# EAGLE library part 418311170804 (library Wurth_Elektronik_Electromechanic_Switchs_rev15b)
WS-PT 2.54 mm piano type compact SMD Dip Switch with flat actuator, 4 Pole
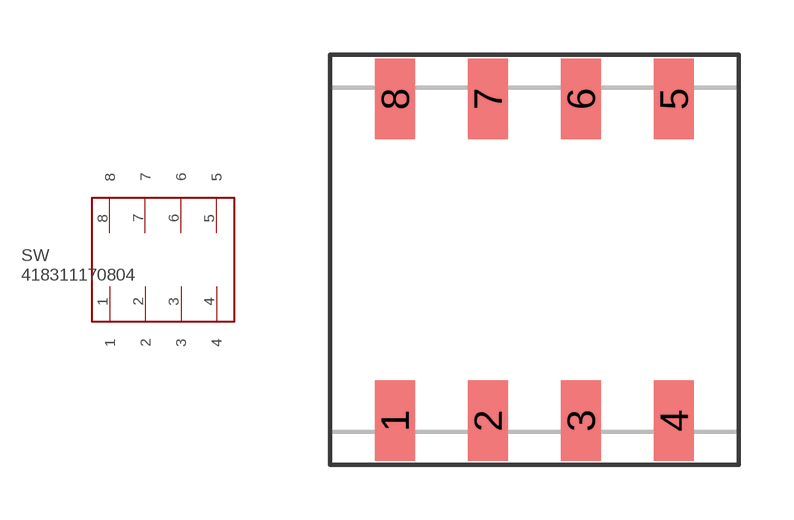
[diagram p126: symbol with the pads of 418311170804; footprint 418311170804]

Designator prefix SW

## 418311170804  [418311170804]
1  1
2  2
3  3
4  4
5  5
6  6
7  7
8  8

## Footprint 418311170804 (pad centres in mm)
WS-PT 2.54 mm piano type compact SMD Dip Switch with flat actuator, 4 Pole
smd 1.1 x 2.2: 1 0,-4.4; 2 2.54,-4.4; 3 5.08,-4.4; 4 7.62,-4.4; 5 7.62,4.4; 6 5.08,4.4; 7 2.54,4.4; 8 0,4.4